# EAGLE library part EXTERNAL_DEBUG_CON (library jtag_interface)
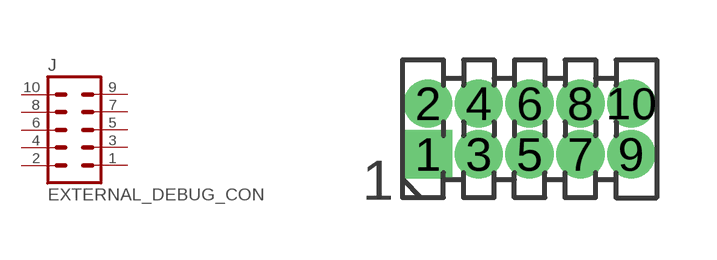
[diagram p0: symbol with the pads of EXTERNAL_DEBUG; footprint EXTERNAL_DEBUG]

Designator prefix J

## EXTERNAL_DEBUG_CON  [EXTERNAL_DEBUG]
1  1  pas
2  2  pas
3  3  pas
4  4  pas
5  5  pas
6  6  pas
7  7  pas
8  8  pas
9  9  pas
10  10  pas

## Footprint EXTERNAL_DEBUG (pad centres in mm)
drill 0.7 pad 0.93 square: 1 -2.54,-0.635
drill 0.7 pad 0.93: 2 -2.54,0.635; 3 -1.27,-0.635; 4 -1.27,0.635; 5 0,-0.635; 6 0,0.635; 7 1.27,-0.635; 8 1.27,0.635; 9 2.54,-0.635; 10 2.54,0.635